# EAGLE library part 229-2VA (library trafo-hammond)
TOROID TRANSFORMER
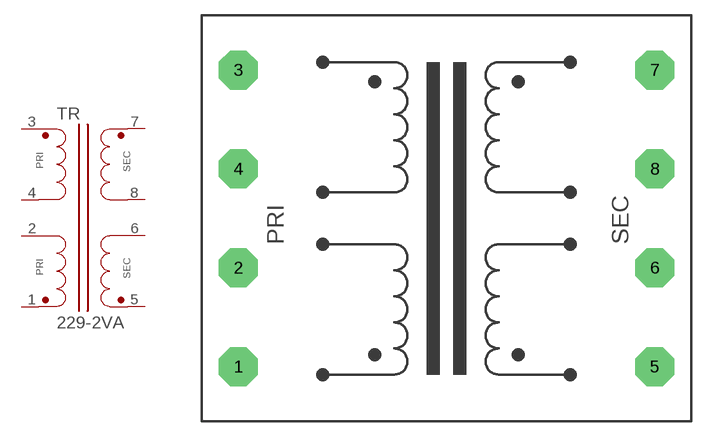
[diagram p4: symbol with the pads of 229-2VA; footprint 229-2VA]

Designator prefix TR

## 229-2VA  [229-2VA]
1  1  pas
2  2  pas
3  3  pas
4  4  pas
5  5  pas
6  6  pas
7  7  pas
8  8  pas

## Footprint 229-2VA (pad centres in mm)
POWER TRANSFORMER W=1.56, L=1.88 inch PC Card Spacing 0.75"
drill 1.422 pad 3.81 octagon: 1 -20.32,-14.478; 2 -20.32,-4.826; 3 -20.32,14.478; 4 -20.32,4.826; 5 20.32,-14.478; 6 20.32,-4.826; 7 20.32,14.478; 8 20.32,4.826